# EAGLE library part CINVESTAV_RD4558 (library VUG)
RD4558 Operational Amplifier
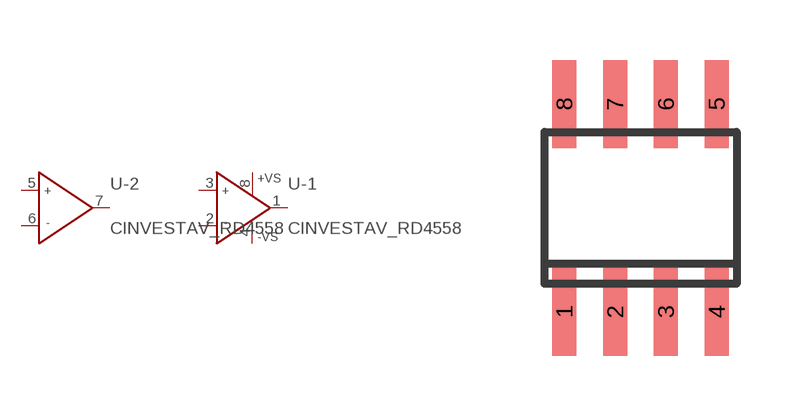
[diagram p6: symbol with the pads of CINVESTAV_SOIC8; footprint CINVESTAV_SOIC8]

Designator prefix -; gates -1=CINVESTAV_OPVS+- -2=CINVESTAV_OP

## CINVESTAV_RD4558  [CINVESTAV_SOIC8]
1  -1:OUT  out
2  -1:IN-  in
3  -1:IN+  in
4  -1:-VS  in
5  -2:IN+  in
6  -2:IN-  in
7  -2:OUT  out
8  -1:+VS  in

## Footprint CINVESTAV_SOIC8 (pad centres in mm)
Small Outline IC
smd 0.6 x 2.2: 1 -1.905,-2.6; 2 -0.635,-2.6; 3 0.635,-2.6; 4 1.905,-2.6; 5 1.905,2.6; 6 0.635,2.6; 7 -0.635,2.6; 8 -1.905,2.6